# Altium schematic symbol library sch_passive_capacitor.SchLib: 1 symbol
Pins are listed as number, name and electrical type; pins without a type are passive.

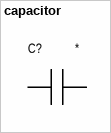
[diagram p0: symbol capacitor]

## capacitor
designator C?
Manufacturer: *; Type: *; HelpURL: *; Length: *; Width: *; Height: *; Package: *; Lead Free: *; RoHS Compliant: *; Status: *; Min Operating Temperature: *; Max Operating Temperature: *; Rated Voltage: *; Rated Current: *; Rated Power: *; Max Power Dissipation: *; Value: *; Tolerance: *; Other: *; Supplier Part Number: *; Supplier: *; Price @ 1 pcs, $: *; Price @ 10 pcs, $: *; Price @ 100 pcs, $: *; Price @ 1000 pcs, $: *; Lead Time: *; Manufacturer Part Number: *
pins: 1, 2